# Altium footprint library PCB1.PcbLib: 21 footprints (part 2 of 2)
Each footprint in its own frame and in the unit in brackets; x right, y up, seen from the top. Pads: shape width x height; smd on the part's side, far side on the other; paste and mask are expansions set on the pad; w line width, h text height; cw(c..) or ccw(c..) is an arc to the next point about the centre after c.
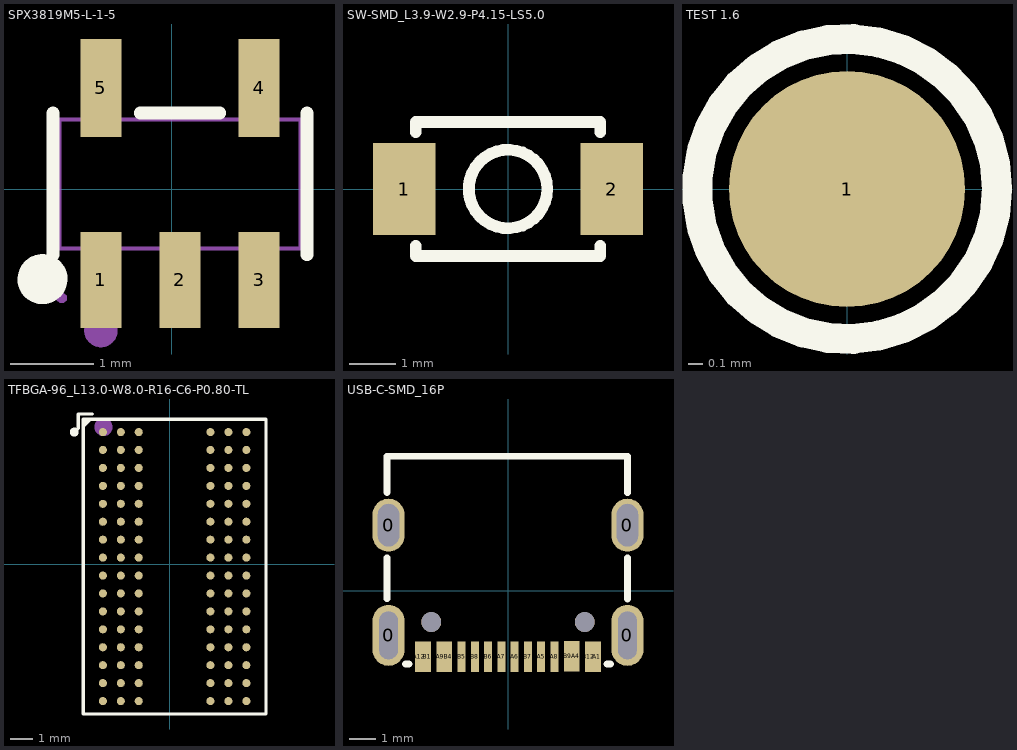
[diagram p1: the footprints below, top view; thin cyan lines are the x and y axes]

## SPX3819M5-L-1-5 [mm]
pads (5):
  rect 0.49x1.157 smd paste+0 mask+0.051: 1(-0.851,-1.093) 2(0.099,-1.093) 3(1.049,-1.093)
  rect 0.49x1.175 smd paste+0 mask+0.051: 4(1.049,1.214) 5(-0.851,1.214)
Top Overlay:
  lines w0.152: -1.427,-0.79 -1.427,0.912 ; -0.377,0.912 0.576,0.912 ; 1.626,-0.79 1.626,0.912
  lines w0.3: -1.402,-1.089 cw(c-1.552,-1.082) -1.402,-1.082
Mechanical 1:
  region: -1.026,-1.339 -1.026,-0.939 -0.676,-0.939 -0.676,-1.339 -1.026,-1.339
  region: -1.026,-0.949 -1.026,-0.679 -0.676,-0.679 -0.676,-0.949 -1.026,-0.949
  region: -0.076,-1.339 -0.076,-0.939 0.274,-0.939 0.274,-1.339 -0.076,-1.339
  region: -0.076,-0.949 -0.076,-0.679 0.274,-0.679 0.274,-0.949 -0.076,-0.949
  region: 0.874,-1.339 0.874,-0.939 1.224,-0.939 1.224,-1.339 0.874,-1.339
  region: 0.874,-0.949 0.874,-0.679 1.224,-0.679 1.224,-0.949 0.874,-0.949
  region: 0.874,1.061 0.874,1.461 1.224,1.461 1.224,1.061 0.874,1.061
  region: 0.874,0.801 0.874,1.071 1.224,1.071 1.224,0.801 0.874,0.801
  region: -1.026,1.061 -1.026,1.461 -0.676,1.461 -0.676,1.061 -1.026,1.061
  region: -1.026,0.801 -1.026,1.071 -0.676,1.071 -0.676,0.801 -1.026,0.801
  region: -1.261,-1.309 -1.261,-1.284 -1.296,-1.249 -1.346,-1.249 -1.381,-1.284 -1.381,-1.309 -1.381,-1.334 -1.346,-1.369 -1.296,-1.369 -1.261,-1.334 -1.261,-1.309
  lines w0.051: -1.351,-0.714 1.549,-0.714 1.549,0.836 -1.351,0.836 -1.351,-0.714
  lines w0.2: -0.751,-1.706 cw(c-0.851,-1.702) -0.751,-1.702

## SW-SMD_L3.9-W2.9-P4.15-LS5.0 [mm]
pads (2):
  rect 1.35x2 smd paste+0 mask+0.051: 1(-2.25,0) 2(2.25,0)
Top Overlay:
  circle w0.254: c0,0 r0.85
  lines w0.254: -2,-1.231 -2,-1.45 2,-1.45 2,-1.231 ; -2,1.231 -2,1.45 2,1.45 2,1.231

## TEST 1.6 [mm]
pads (1):
  round 1.6 smd paste-1.6: 1(0,0)
Top Overlay:
  circle w0.203: c0,0 r1.016

## TFBGA-96_L13.0-W8.0-R16-C6-P0.80-TL [mm]
pads (96):
  round 0.36 smd paste+0 mask+0.05: A1(-2.988,5.886) A2(-2.188,5.886) A3(-1.388,5.886) A7(1.812,5.886) A8(2.612,5.886) A9(3.412,5.886) B1(-2.988,5.085) B2(-2.188,5.086) B3(-1.388,5.086) B7(1.812,5.086) B8(2.612,5.086) B9(3.412,5.086) C1(-2.988,4.286) C2(-2.188,4.286) C3(-1.388,4.286) C7(1.812,4.286) C8(2.612,4.286) C9(3.412,4.286) D1(-2.988,3.486) D2(-2.188,3.486) D3(-1.388,3.486) D7(1.812,3.486) D8(2.612,3.486) D9(3.412,3.486) E1(-2.988,2.686) E2(-2.188,2.686) E3(-1.388,2.686) E7(1.812,2.686) E8(2.612,2.686) E9(3.412,2.686) F1(-2.988,1.886) F2(-2.188,1.886) F3(-1.388,1.886) F7(1.812,1.886) F8(2.612,1.886) F9(3.412,1.886) G1(-2.988,1.086) G2(-2.188,1.086) G3(-1.388,1.086) G7(1.812,1.086) G8(2.612,1.086) G9(3.412,1.086) H1(-2.988,0.286) H2(-2.188,0.286) H3(-1.388,0.286) H7(1.812,0.286) H8(2.612,0.286) H9(3.412,0.286) J1(-2.988,-0.514) J2(-2.188,-0.514) J3(-1.388,-0.514) J7(1.812,-0.514) J8(2.612,-0.514) J9(3.412,-0.514) K1(-2.988,-1.314) K2(-2.188,-1.314) K3(-1.388,-1.314) K7(1.812,-1.314) K8(2.612,-1.314) K9(3.412,-1.314) L1(-2.988,-2.114) L2(-2.188,-2.114) L3(-1.388,-2.114) L7(1.812,-2.114) L8(2.612,-2.114) L9(3.412,-2.114) M1(-2.988,-2.914) M2(-2.188,-2.914) M3(-1.388,-2.914) M7(1.812,-2.914) M8(2.612,-2.914) M9(3.412,-2.914) N1(-2.988,-3.714) N2(-2.188,-3.714) N3(-1.388,-3.714) N7(1.812,-3.714) N8(2.612,-3.714) N9(3.412,-3.714) P1(-2.988,-4.514) P2(-2.188,-4.514) P3(-1.388,-4.514) P7(1.812,-4.514) P8(2.612,-4.514) P9(3.412,-4.514) R1(-2.988,-5.314) R2(-2.188,-5.314) R3(-1.388,-5.314) R7(1.812,-5.314) R8(2.612,-5.314) R9(3.412,-5.314) T1(-2.988,-6.114) T2(-2.188,-6.114) T3(-1.388,-6.114) T7(1.812,-6.114) T8(2.612,-6.114) T9(3.412,-6.114)
Top Overlay:
  circle w0.2: c-4.264,5.886 r0.1
  region: -3.464,6.462 -3.864,6.062 -3.864,6.462
  lines w0.152: -4.093,6.062 -4.093,6.69 -3.464,6.69 ; -3.864,-6.69 -3.864,6.462 4.288,6.462 4.288,-6.69 -3.864,-6.69
Mechanical 15:
  circle w0.4: c-2.963,6.109 r0.2
  region: -3.464,6.462 -3.864,6.062 -3.864,6.462

## USB-C-SMD_16P [mm]
pads (22):
  oval 1.2x2.3 hole 0.7 slot 1.8 at 90 deg: 0(-4.5,-1.675) 0(4.5,-1.675)
  oval 1.2x2 hole 0.8 slot 1.6 at 90 deg: 0(-4.5,2.475) 0(4.5,2.475)
  rect 0.3x1.15 smd: A1(3.35,-2.473) A4(2.55,-2.471) A5(1.25,-2.475) A6(0.25,-2.475) A7(-0.25,-2.473) A9(-2.55,-2.475) A12(-3.35,-2.475) B1(-3.05,-2.475) B4(-2.25,-2.475) B5(-1.75,-2.475) B6(-0.75,-2.475) B7(0.75,-2.473) B9(2.25,-2.471) B12(3.05,-2.473)
  rect 0.3x1.148 smd: A8(1.75,-2.475) B8(-1.25,-2.475)
  round 0.75 hole 0.75 unplated: ""(-2.89,-1.175) ""(2.89,-1.175)
Top Overlay:
  lines w0.254: -4.557,-0.296 -4.557,1.246 ; -4.557,3.704 -4.557,5.075 4.5,5.075 4.5,3.698 ; -3.856,-2.75 -3.819,-2.75 -3.731,-2.75 ; 3.731,-2.75 3.856,-2.75 ; 4.5,-0.302 4.5,1.252
3D body "USB_TYPE-C_a.STEP": height 3.25, standoff -0.85, extent -4.445,-2.875 4.495,5.025